# Altium schematic symbol library BMP280.SchLib: 1 symbol
Pins are listed as number, name and electrical type; pins without a type are passive.

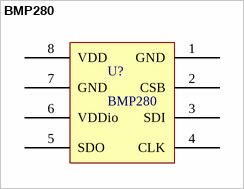
[diagram p0: symbol BMP280]

## BMP280
designator U?
pins: 1 GND, 2 CSB, 3 SDI, 4 CLK, 5 SDO, 6 VDDio, 7 GND, 8 VDD